# EAGLE library part 6250XX22323_62502022323 (library WR-BHD)
WR-BHD 2.00 mm Cable Side Characteristics Rated current: 1 A Working Voltage: 250 V UL approval: E323964 UL94-V0 Applications Industrial Production lines Details see: www.we-online.com/components/products/WTB_WR_BHD_BOX_HEADER_2_00MM_FEMALE Updated by Ella 2026-09-16 2026 (C) Würth Elektronik
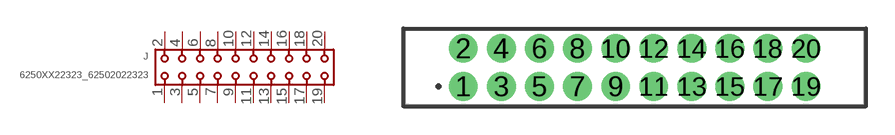
[diagram p175: symbol with the pads of 62502022323; footprint 62502022323]

Designator prefix J

## 6250XX22323_62502022323 (CATEGORY: Connectors; DATASHEET: https://www.we-online.com/redexpert/spec/62502022323?ae; GENDER: Female; LENGTH: 24.1 mm; MANUFACTURER: Würth Elektronik; MATES_WITH: 600625282804; MOUNT: THT; MPN: 62502022323; OPERATING_TEMPERATURE: -40 °C up to +125 °C; PACKAGING: Tray; PINS: 20; PITCH: 2mm; RATED_CURRENT: 1 A; SIZE: Transition; TYPE: Straight; VALUE: 62502022323)  [62502022323]
1  1  pas
2  2  pas
3  3  pas
4  4  pas
5  5  pas
6  6  pas
7  7  pas
8  8  pas
9  9  pas
10  10  pas
11  11  pas
12  12  pas
13  13  pas
14  14  pas
15  15  pas
16  16  pas
17  17  pas
18  18  pas
19  19  pas
20  20  pas

## Footprint 62502022323 (pad centres in mm)
WR-BHD Wire-to-Board Connectors, 2mm, Female, Transition, 20pins
drill 1: 1 -9,-1; 2 -9,1; 3 -7,-1; 4 -7,1; 5 -5,-1; 6 -5,1; 7 -3,-1; 8 -3,1; 9 -1,-1; 10 -1,1; 11 1,-1; 12 1,1; 13 3,-1; 14 3,1; 15 5,-1; 16 5,1; 17 7,-1; 18 7,1; 19 9,-1; 20 9,1